# Altium footprint library GenericComponents.PcbLib: 41 footprints (part 1 of 3)
Each footprint in its own frame and in the unit in brackets; x right, y up, seen from the top. Pads: shape width x height; smd on the part's side, far side on the other; paste and mask are expansions set on the pad; w line width, h text height; cw(c..) or ccw(c..) is an arc to the next point about the centre after c.
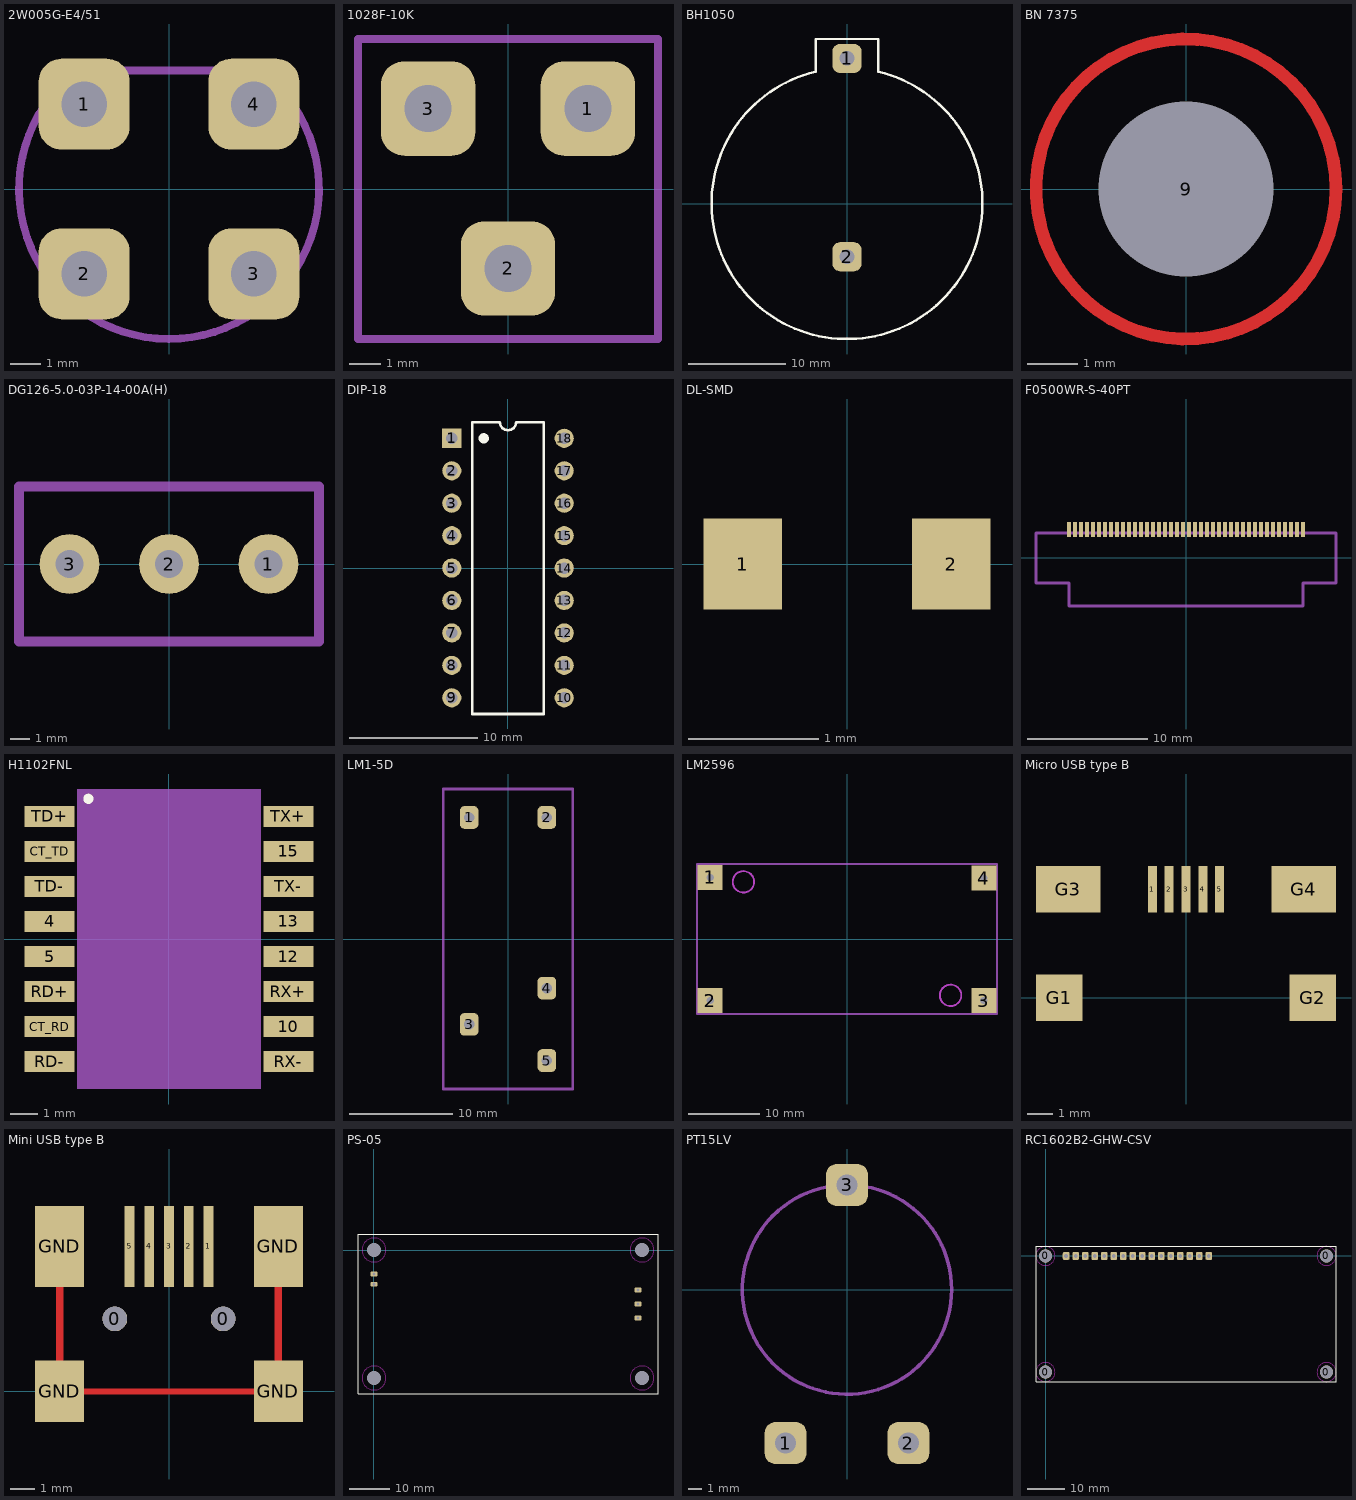
[diagram p0: the footprints below, top view; thin cyan lines are the x and y axes]

## 2W005G-E4/51 [mm] "Punte redresoare; rotund; 50V; 2A"
pads (4):
  rrect50% 3x3 hole 1.5: 1(-2.8,2.8) 2(-2.8,-2.8) 3(2.8,-2.8) 4(2.8,2.8)
Mechanical 1:
  lines w0.254: 3.036,3.909 -3.032,3.909 ccw(c0,0) 3.048,3.897

## 1028F-10K [mm] "Potentiometru: de montare; singura tura, orizontal; 10kO; 500mW"
pads (3):
  rrect50% 3x3 hole 1.5: 1(2.54,2.555) 2(0,-2.525) 3(-2.54,2.555)
Mechanical 1:
  lines w0.254: -4.765,-4.765 4.765,-4.765 4.765,4.765 -4.765,4.765 -4.765,-4.765

## BH1050 [mm] "Socket; Size: CR2430; Mounting: horizontal; Leads: for PCB; 7.49mm"
pads (2):
  rrect50% 3x3 hole 1.5: 1(0,15) 2(0,-5.5)
Top Overlay:
  lines w0.254: -3.252,13.617 ccw(c0,0) 3.252,13.617 ; -3.25,13.614 -3.25,17 3.25,17 3.25,13.64

## BN 7375 [mil]
pads (1):
  round 60 hole 137.8: 9(0,0)
Top Layer:
  circle w10: c0,0 r118.11

## DG126-5.0-03P-14-00A(H) [mm] "Connector 3 PIN"
pads (3):
  round 3 hole 1.4: 1(5,0) 2(0,0) 3(-5,0)
Mechanical 1:
  lines w0.5: -7.54,-3.9 7.54,-3.9 7.54,0 7.54,3.9 -7.54,3.9 -7.54,0 -7.54,-3.9

## DIP-18 [mm]
pads (18):
  rect 1.5x1.5 hole 0.9: 1(-4.4,10.16)
  round 1.5 hole 0.9: 2(-4.4,7.62) 3(-4.4,5.08) 4(-4.4,2.54) 5(-4.4,0) 6(-4.4,-2.54) 7(-4.4,-5.08) 8(-4.4,-7.62) 9(-4.4,-10.16) 10(4.4,-10.16) 11(4.4,-7.62) 12(4.4,-5.08) 13(4.4,-2.54) 14(4.4,0) 15(4.4,2.54) 16(4.4,5.08) 17(4.4,7.62) 18(4.4,10.16)
Top Overlay:
  circle w0.4: c-1.9,10.16 r0.2
  lines w0.2: -2.815,-11.43 -2.815,11.43 -0.635,11.43 ccw(c0,11.43) 0.635,11.43 2.815,11.43 2.815,-11.43 -2.815,-11.43
3D body: height 5.08, standoff -3.32, extent -4.78,-12.192 4.78,12.192

## DL-SMD [mm] "LED SMD"
height 0.45
pads (2):
  rect 0.6x0.7 smd: 1(-0.8,0) 2(0.8,0)
3D body: height 0.45, standoff 0.2, extent -1.27,-0.508 1.27,0.508

## F0500WR-S-40PT [mm] "Conector: FFC (FPC); PIN:40; ZIF, orizontale, contacte superioare"
pads (40):
  rect 0.3x1.25 smd mask+0.08: 1(-9.75,2.375) 2(-9.25,2.375) 3(-8.75,2.375) 4(-8.25,2.375) 5(-7.75,2.375) 6(-7.25,2.375) 7(-6.75,2.375) 8(-6.25,2.375) 9(-5.75,2.375) 10(-5.25,2.375) 11(-4.75,2.375) 12(-4.25,2.375) 13(-3.75,2.375) 14(-3.25,2.375) 15(-2.75,2.375) 16(-2.25,2.375) 17(-1.75,2.375) 18(-1.25,2.375) 19(-0.75,2.375) 20(-0.25,2.375) 21(0.25,2.375) 22(0.75,2.375) 23(1.25,2.375) 24(1.75,2.375) 25(2.25,2.375) 26(2.75,2.375) 27(3.25,2.375) 28(3.75,2.375) 29(4.25,2.375) 30(4.75,2.375) 31(5.25,2.375) 32(5.75,2.375) 33(6.25,2.375) 34(6.75,2.375) 35(7.25,2.375) 36(7.75,2.375) 37(8.25,2.375) 38(8.75,2.375) 39(9.25,2.375) 40(9.75,2.375)
Mechanical 1:
  lines w0.254: -12.5,-2.1 -9.75,-2.1 -9.75,-4 9.75,-4 9.75,-2.1 12.5,-2.1 12.5,2.1 -12.5,2.1 -12.5,-2.1

## H1102FNL [mm] "Transformer: Ethernet; SMD; Trans: RX 1:1,TX 1:1; -1.1dB; 0÷70°C"
height 6
pads (16):
  rect 1.8x0.76 smd: 4(-4.33,0.635) 5(-4.33,-0.635) 10(4.33,-3.175) 12(4.33,-0.635) 13(4.33,0.635) 15(4.33,3.175) CT_RD(-4.33,-3.175) CT_TD(-4.33,3.175) RD+(-4.33,-1.905) RD-(-4.33,-4.445) RX+(4.33,-1.905) RX-(4.33,-4.445) TD+(-4.33,4.445) TD-(-4.33,1.905) TX+(4.33,4.445) TX-(4.33,1.905)
Top Overlay:
  circle w0.254: c-2.921,5.08 r0.057
Mechanical 1:
  region: -3.328,5.436 -3.328,-5.436 3.327,-5.436 3.327,5.436

## LM1-5D [mm] "Releu: electromagnetic;"
pads (5):
  rrect50% 1.8x2.2 hole 1: 1(-3.75,11.75) 2(3.75,11.75) 3(-3.75,-8.25) 4(3.75,-4.75) 5(3.75,-11.75)
Mechanical 8:
  lines w0.254: 6.25,-14.5 -6.25,-14.5 -6.25,14.5 6.25,14.5 6.25,-14.373

## LM2596 [mm] "Modul DC-DC Step Down LM2596"
pads (4):
  rect 3.5x3.5 hole 1: 1(-19.152,8.611) 2(-19.152,-8.611) 3(19.152,-8.611) 4(19.152,8.525)
Mechanical 1:
  lines w0.254: -21,-10.5 21,-10.5 21,10.5 -21,10.5 -21,-10.5
Mechanical 1 keep-out:
  circle w0.254: c14.5,-7.889 r1.5
  circle w0.254: c-14.5,8 r1.5

## Micro USB type B [mm] "Micro USB type B"
pads (9):
  rect 0.35x1.8 smd: 1(-1.3,4.2) 2(-0.65,4.2) 3(0,4.2) 4(0.65,4.2) 5(1.3,4.2)
  rect 1.8x1.8 smd: G1(-4.9,0) G2(4.9,0)
  rect 2.5x1.8 smd: G3(-4.55,4.2) G4(4.55,4.2)
3D body: height 2.98, standoff 0, extent -5.842,-1.016 5.842,5.207

## Mini USB type B [mm] "Mini USB type B"
pads (11):
  round 1 hole 1 unplated: 0(-2.2,2.95) 0(2.2,2.95)
  rect 0.4x3.3 smd: 1(1.6,5.9) 2(0.8,5.9) 3(0,5.9) 4(-0.8,5.9) 5(-1.6,5.9)
  rect 2x2.5 smd: GND(-4.45,0) GND(4.45,0)
  rect 2x3.3 smd: GND(-4.45,5.9) GND(4.45,5.9)
Top Layer:
  lines w0.254: -4.45,0 4.45,0
  lines w0.3: -4.45,0 -4.45,5.9 ; 4.45,0 4.45,5.9
3D body: height 2.98, standoff 0, extent -5.842,-2.222 5.842,8.255

## PS-05 [mm] "5W Single Output Switching Power Supply"
pads (9):
  round 1.524 hole 3.5: 0(0,0) 1(67,0) 2(0,-32) 3(67,-32)
  rrect50% 1.7x1.2 hole 0.8: I1(66,-10) I2(66,-13.5) I3(66,-17) O1(0,-6) O2(0,-8.54)
Top Overlay:
  lines w0.254: -4,-36 -4,4 71,4 71,-36 -4,-36
Keep-Out Layer:
  circle w0.254: c67,-32 r3
  circle w0.254: c67,0 r3
  circle w0.254: c0,-32 r3
  circle w0.254: c0,0 r3
3D body: height 10, standoff 0, extent 63.991,-3.009 70.009,3.009
3D body: height 10, standoff 0, extent 63.991,-35.009 70.009,-28.991
3D body: height 10, standoff 0, extent -3.009,-3.009 3.009,3.009
3D body: height 10, standoff 0, extent -3.009,-35.009 3.009,-28.991
3D body: height 25, standoff 0, extent -3.127,-35.127 70.127,3.127

## PT15LV [mm] "Potentiometru: de montare; singura tura, orizontal; 1M; 250mW"
pads (3):
  rrect50% 3x3 hole 1.5: 1(-4.4,-11) 2(4.4,-11) 3(0,7.5)
Mechanical 1:
  circle w0.254: c0,0 r7.5

## RC1602B2-GHW-CSV [mm]
pads (20):
  round 3.5 hole 3.5 unplated: 0(0,-31) 0(0,0) 0(75,0)
  round 3.5 hole 3.5 unplated paste+0: 0(75,-31)
  rrect50% 1.8x2.2 hole 1: 1(5.5,0) 2(8.04,0) 3(10.58,0) 4(13.12,0) 5(15.66,0) 6(18.2,0) 7(20.74,0) 8(23.28,0) 9(25.82,0) 10(28.36,0) 11(30.9,0) 12(33.44,0) 13(35.98,0) 14(38.52,0) 15(41.06,0) 16(43.6,0)
Top Overlay:
  lines w0.2: -2.54,-33.54 -2.54,2.54 77.54,2.54 77.54,-33.54 -2.54,-33.54
Keep-Out Layer:
  circle w0.2: c0,0 r2.54
  circle w0.2: c75,0 r2.54
  circle w0.2: c0,-31 r2.54
  circle w0.2: c75,-31 r2.54